# EAGLE library part OHSC_POWER_LM74700-Q1 (library motor_board_tmc)
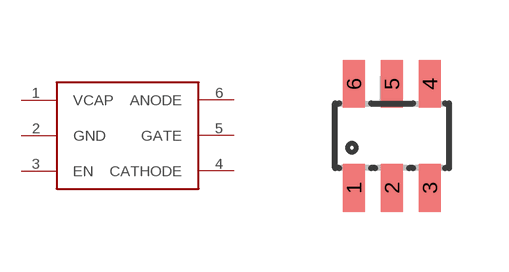
[diagram p0: symbol with the pads of OHSC_POWER_SOT23-6; footprint OHSC_POWER_SOT23-6]

Designator prefix U

## OHSC_POWER_LM74700-Q1  [OHSC_POWER_SOT23-6]
1  VCAP
2  GND
3  EN
4  CATHODE
5  GATE
6  ANODE

## Footprint OHSC_POWER_SOT23-6 (pad centres in mm)
smd 0.55 x 1.2: 1 -0.95,-1.3; 2 0,-1.3; 3 0.95,-1.3; 4 0.95,1.3; 5 0,1.3; 6 -0.95,1.3